# Altium footprint library Erico_Ignitor.PcbLib: 55 footprints (part 3 of 4)
Each footprint in its own frame and in the unit in brackets; x right, y up, seen from the top. Pads: shape width x height; smd on the part's side, far side on the other; paste and mask are expansions set on the pad; w line width, h text height; cw(c..) or ccw(c..) is an arc to the next point about the centre after c.
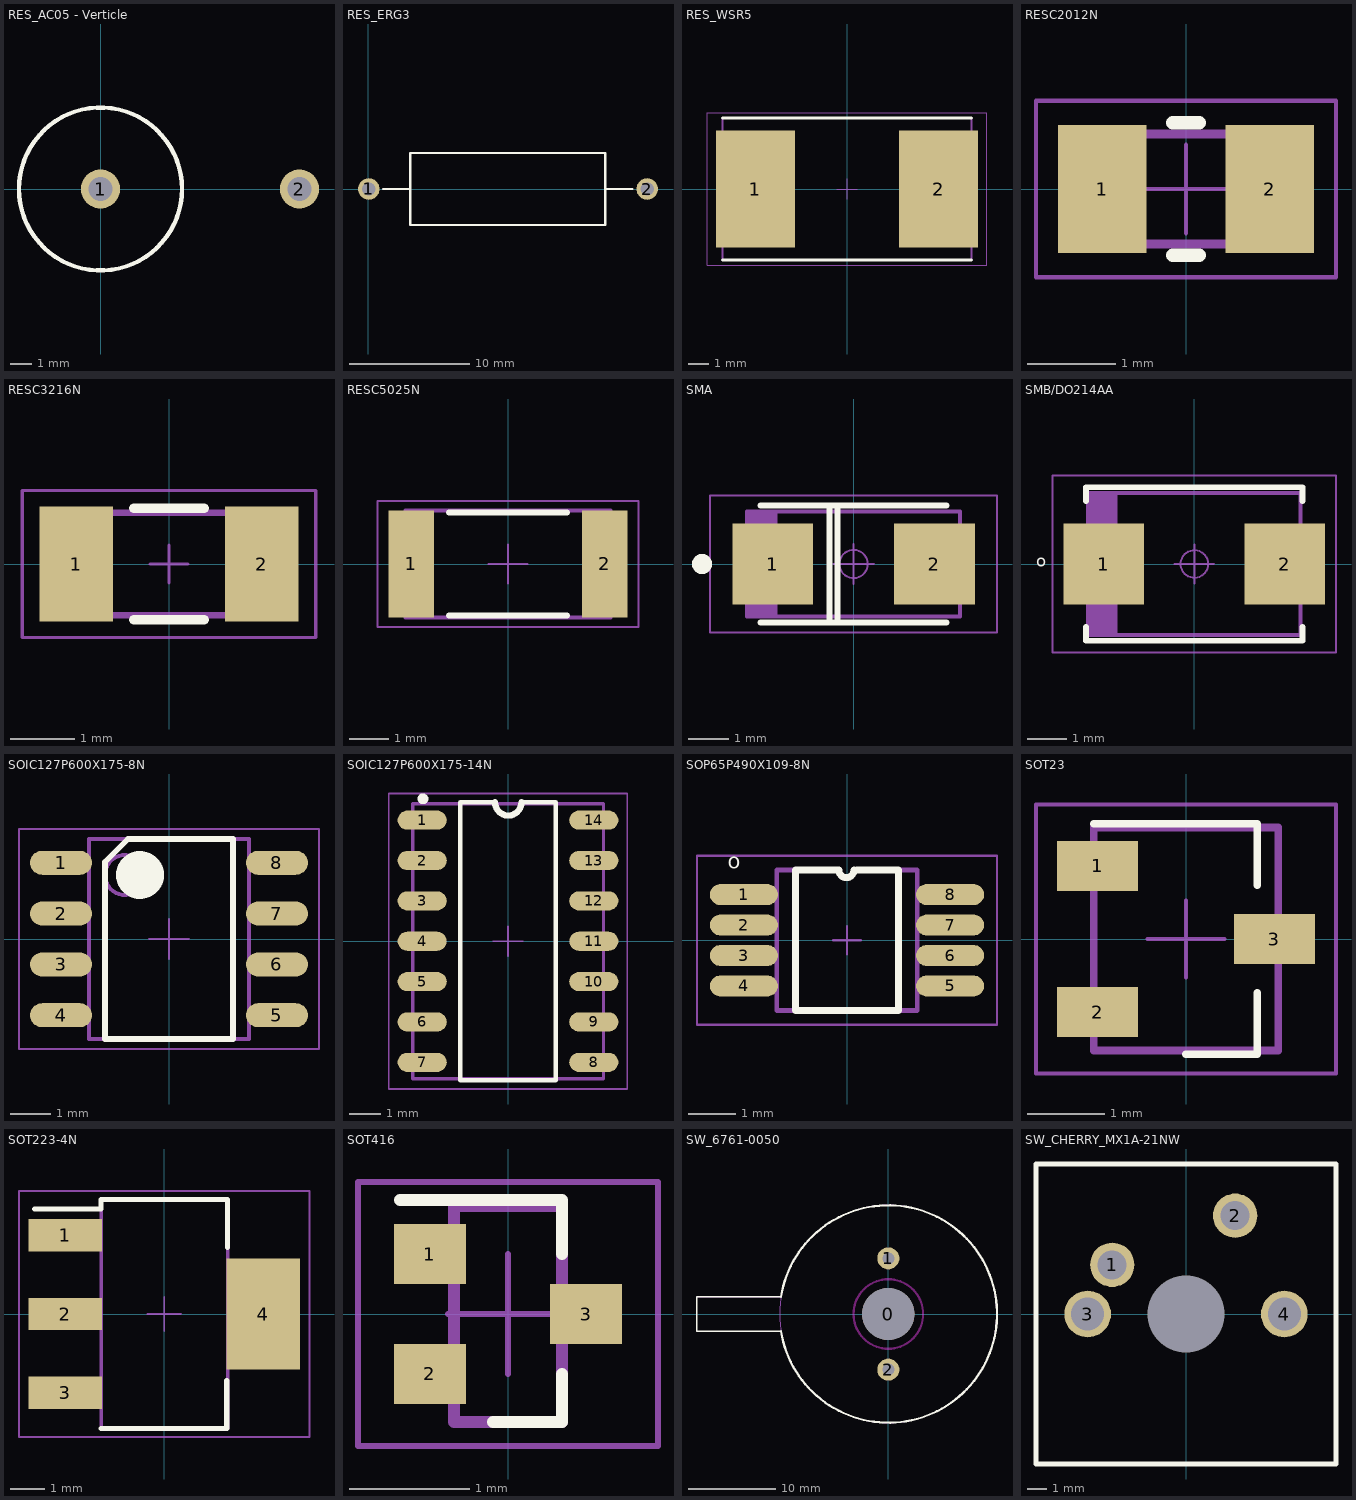
[diagram p2: the footprints below, top view; thin cyan lines are the x and y axes]

## RES_AC05 - Verticle [mm] "Resistor, Axial, 5W"
height 7.493
pads (2):
  round 1.8 hole 1.1: 1(0,0) 2(9.144,0)
Top Overlay:
  circle w0.2: c0,0 r3.746
3D body: height 2.2, standoff -2.8, extent -0.397,-0.399 0.4,0.399
3D body: height 21.2, standoff 20.4, extent -0.399,-0.397 0.4,0.397
3D body: height 21.2, standoff 20.4, extent 8.745,-0.397 9.544,0.397
3D body: height 21.2, standoff 20.4, extent 0,-0.399 9.144,0.398
3D body: height 20.75, standoff 19.25, extent -0.397,-0.399 0.4,0.399
3D body: height 20.8, standoff -2.8, extent 8.747,-0.399 9.544,0.399
3D body: height 19.25, standoff 1.27, extent -3.747,-3.746 3.746,3.747

## RES_ERG3 [mm] "Resistor, Axial, 3W"
height 5.512
pads (2):
  round 1.8 hole 1.1: 1(0.039,0) 2(23.25,0)
Top Overlay:
  lines w0.2: 1.25,0 3.5,0 ; 19.75,0 22,0 ; 3.5,-3 19.75,-3 19.75,3 3.5,3 3.5,-3
Mechanical 13:
  lines w0.1: 3.5,-3 3.5,3 19.75,3 19.75,-3 3.5,-3
3D body "RES_ERG3S.stp": height 6.5, standoff -2.54, extent -0.444,-3.251 23.762,3.251

## RES_WSR5 [mil] "Chip Resistor Body 455mils X 275mils"
height 100
pads (2):
  rect 155x230 smd: 1(-180,0) 2(180,0)
Top Overlay:
  lines w6: -245,-140 245,-140 ; -245,140 245,140
Mechanical 13:
  lines w4: -245,-140 245,-140 245,140 -245,140 -245,-140
Mechanical 15:
  lines w2: -19.68,0 19.69,0 ; 0,-19.68 0,19.69 ; -275,-150 275,-150 275,150 -275,150 -275,-150
3D body "WSR.step": height 49.02, standoff 0, extent -240.98,-139.99 240.99,140.01
3D body: height 50, standoff 0, extent 0,0 0,0

## RESC2012N [mm] "Chip Resistor, Body 2.0x1.3mm, IPC Med Density"
height 0.65
pads (2):
  rect 1x1.45 smd: 1(-0.95,0) 2(0.95,0)
Top Overlay:
  lines w0.15: -0.15,-0.75 0.15,-0.75 ; -0.15,0.75 0.15,0.75
Mechanical 13:
  lines w0.1: -1.075,-0.625 -1.075,0.625 1.075,0.625 1.075,-0.625 -1.075,-0.625
Mechanical 15:
  lines w0.05: -0.5,0 0.5,0 ; 0,-0.5 0,0.5 ; -1.7,-1 -1.7,1 1.7,1 1.7,-1 -1.7,-1
3D body "User Library-SMD RESISTOR-0805.STEP": height 0.59, standoff -0.01, extent -1,-0.625 1,0.625

## RESC3216N [mm] "Chip Resistor, Body 3.2x1.6mm, IPC Nominal"
height 0.71
pads (2):
  rect 1.15x1.8 smd: 1(-1.45,0) 2(1.45,0)
Top Overlay:
  lines w0.15: -0.55,-0.875 0.55,-0.875 ; -0.55,0.875 0.55,0.875
Mechanical 13:
  lines w0.1: -1.6,-0.8 -1.6,0.8 1.6,0.8 1.6,-0.8 -1.6,-0.8
Mechanical 15:
  lines w0.05: -0.3,0 0.3,0 ; 0,-0.3 0,0.3 ; -2.3,-1.15 -2.3,1.15 2.3,1.15 2.3,-1.15 -2.3,-1.15
3D body "CR3216-1206.STEP": height 0.6, standoff 0, extent -1.6,-0.8 1.6,0.8

## RESC5025N [mm] "Chip Resistor Body 5.0x2.5mm, IPC Med Density"
height 0.76
pads (2):
  rect 1.15x2.7 smd: 1(-2.45,0) 2(2.45,0)
Top Overlay:
  lines w0.15: -1.5,-1.3 1.5,-1.3 ; -1.5,1.3 1.5,1.3
Mechanical 13:
  lines w0.1: -2.6,-1.35 2.6,-1.35 2.6,1.35 -2.6,1.35 -2.6,-1.35
Mechanical 15:
  lines w0.05: -0.5,0 0.5,0 ; 0,-0.5 0,0.5 ; -3.3,-1.6 3.3,-1.6 3.3,1.6 -3.3,1.6 -3.3,-1.6
3D body "User Library-SMD RESISTOR-2010..STEP": height 0.6, standoff 0, extent -2.5,-1.25 2.5,1.25

## SMA [mm] "Diode, DO-214AC, SMA, 2.92mm x 4.57mm x 2.41mm"
height 2.41
pads (2):
  rect 2x2 smd: 1(-2,0) 2(2,0)
Top Overlay:
  circle w0.25: c-3.75,0 r0.125
  lines w0.15: -2.3,-1.45 2.3,-1.45 ; -2.3,1.45 2.3,1.45 ; -0.6,-1.45 -0.6,1.45 ; -0.4,-1.45 -0.4,1.45
Mechanical 13:
  lines w0.1: -2.532,-1.3 -2.532,1.3 ; -2.432,-1.3 -2.432,1.3 ; -2.332,-1.3 -2.332,1.3 ; -2.232,-1.3 -2.232,1.3 ; -2.132,-1.3 -2.132,1.3 ; -2.033,-1.3 -2.033,1.3 ; -1.932,-1.3 -1.932,1.3 ; -2.632,-1.3 2.632,-1.3 2.632,1.3 -2.632,1.3 ; -2.632,-1.3 -2.632,1.3 ; -2.632,-1.3 -2.632,1.3
Mechanical 15:
  circle w0.05: c0,0 r0.35
  lines w0.05: -0.5,0 0.5,0 ; 0,-0.5 0,0.5 ; -3.55,-1.7 3.55,-1.7 3.55,1.7 -3.55,1.7 -3.55,-1.7
3D body "SW3dPS-DO-214AC SMA.STEP": height 2.38, standoff -0.02, extent -2.6,-1.3 2.6,1.3

## SMB/DO214AA [mm] "Diode, SMB"
height 2.44
pads (2):
  rect 2.05x2.05 smd: 1(-2.3,0) 2(2.3,0)
Top Overlay:
  lines w0.15: -2.75,-1.6 -2.75,-1.95 2.75,-1.95 2.75,-1.6 ; -2.75,1.6 -2.75,1.95 2.75,1.95 2.75,1.6
  text "o" at -4.025,-0.075 h0.3
Mechanical 13:
  lines w0.1: -2.6,-1.8 -2.6,1.8 ; -2.5,-1.8 -2.5,1.8 ; -2.4,-1.8 -2.4,1.8 ; -2.3,-1.8 -2.3,1.8 ; -2.2,-1.8 -2.2,1.8 ; -2.1,-1.8 -2.1,1.8 ; -2,-1.8 -2,1.8 ; -2.7,-1.8 2.7,-1.8 2.7,1.8 -2.7,1.8 ; -2.7,-1.8 -2.7,1.8 ; -2.7,-1.8 -2.7,1.8
Mechanical 15:
  circle w0.05: c0,0 r0.35
  lines w0.05: -0.5,0 0.5,0 ; 0,-0.5 0,0.5 ; -3.6,-2.25 3.6,-2.25 3.6,2.25 -3.6,2.25 -3.6,-2.25
3D body "SW3dPS-DO-214AA SMB.STEP": height 2.29, standoff -0.01, extent -2.7,-1.8 2.7,1.8

## SOIC127P600X175-8N [mm] "SOIC, 8-Leads, Body 4.9x3.9mm, Pitch 1.27mm, IPC Medium Density"
height 1.75
pads (8):
  oval 1.55x0.6 smd: 1(-2.7,1.905) 2(-2.7,0.635) 3(-2.7,-0.635) 4(-2.7,-1.905) 5(2.7,-1.905) 6(2.7,-0.635) 7(2.7,0.635) 8(2.7,1.905)
Top Overlay:
  circle w0.6: c-0.725,1.6 r0.3
  lines w0.15: -1.6,-2.5 1.6,-2.5 1.6,2.5 -1.025,2.5 -1.6,1.925 -1.6,-2.5
Mechanical 13:
  circle w0.1: c-1.1,1.6 r0.5
  lines w0.1: -2,-2.5 -2,2.5 2,2.5 2,-2.5 -2,-2.5
Mechanical 15:
  lines w0.05: -0.5,0 0.5,0 ; 0,-0.5 0,0.5 ; -3.75,-2.75 -3.75,2.75 3.75,2.75 3.75,-2.75 -3.75,-2.75
3D body "User Library-IPC SO8.STEP": height 1.9, standoff 0, extent -3.028,-2.5 3.028,2.5

## SOIC127P600X175-14N [mm] "SOIC, 1.27mm pitch, 14P, 3.9mm x 8.69mm, IPC Nominal"
height 1.75
pads (14):
  oval 1.55x0.6 smd: 1(-2.7,3.81) 2(-2.7,2.54) 3(-2.7,1.27) 4(-2.7,0) 5(-2.7,-1.27) 6(-2.7,-2.54) 7(-2.7,-3.81) 8(2.7,-3.81) 9(2.7,-2.54) 10(2.7,-1.27) 11(2.7,0) 12(2.7,1.27) 13(2.7,2.54) 14(2.7,3.81)
Top Overlay:
  circle w0.25: c-2.675,4.483 r0.042
  lines w0.15: -0.408,4.374 -1.5,4.374 -1.5,-4.376 1.5,-4.376 1.5,4.374 0.425,4.374
  lines w0.2: -0.408,4.374 ccw(c0.008,4.374) 0.425,4.374
Mechanical 13:
  lines w0.1: -3,-4.326 3.008,-4.326 3.008,4.325 -3,4.325 -3,-4.326
Mechanical 15:
  lines w0.05: -0.475,0 0.475,0 ; 0,-0.475 0,0.475 ; -3.75,-4.65 -3.75,4.65 3.75,4.65 3.75,-4.65 -3.75,-4.65
3D body "SOIC14.STEP": height 1.55, standoff 0, extent -3,-4.325 3,4.325

## SOP65P490X109-8N [mm] "SOP, 0.65P, 8P, 3.00mm x 3.00mm, IPC Nominal"
height 1.1
pads (8):
  oval 1.45x0.45 smd mask+0.047: 1(-2.2,0.975) 2(-2.2,0.325) 3(-2.2,-0.325) 4(-2.2,-0.975) 5(2.2,-0.975) 6(2.2,-0.325) 7(2.2,0.325) 8(2.2,0.975)
Top Overlay:
  lines w0.15: 0.15,1.5 cw(c-0.013,1.5) -0.175,1.5 -1.1,1.5 -1.1,-1.5 1.1,-1.5 1.1,1.5 0.2,1.5
  text "o" at -2.54,1.524 h0.33
Mechanical 13:
  lines w0.1: 0.15,1.5 cw(c-0.013,1.5) -0.175,1.5 -1.5,1.5 -1.5,-1.5 1.5,-1.5 1.5,1.5 0.2,1.5
Mechanical 15:
  lines w0.05: -0.3,0 0.3,0 ; 0,-0.3 0,0.3 ; -3.2,-1.8 3.2,-1.8 3.2,1.8 -3.2,1.8 -3.2,-1.8
3D body "User Library-IPC SOSOP65P490X110-8BN MO-187AA SOP.STEP": height 1.25, standoff 0, extent -2.478,-1.55 2.478,1.55

## SOT23 [mm] "SOT23, 3-Leads, Body 2.9x1.3mm, Pitch 0.95mm, Lead Span 2.5mm, IPC Med Density"
height 1.1
pads (3):
  rect 1.05x0.65 smd: 1(-1.15,0.95) 2(-1.15,-0.95) 3(1.15,0)
Top Overlay:
  lines w0.1: -1.2,1.5 0.694,1.5 0.925,1.5 0.925,0.7 ; 0,-1.5 0.925,-1.5 0.925,-0.7
Mechanical 13:
  lines w0.1: -1.2,-1.45 -1.2,1.45 1.2,1.45 1.2,-1.45 -1.2,-1.45
Mechanical 15:
  lines w0.05: -0.5,0 0.5,0 ; 0,-0.5 0,0.5 ; -1.95,-1.75 -1.95,1.75 1.95,1.75 1.95,-1.75 -1.95,-1.75
3D body "SOT-3p290x130.STEP": height 1, standoff 0, extent -1.185,-1.475 1.185,1.425

## SOT223-4N [mm] "SOT223/SC73, 4-Leads, Body 6.5x3.5mm, Pitch 2.3mm, Lead Span 7mm, IPC Medium Density"
height 1.8
pads (4):
  rect 2.15x0.95 smd: 1(-2.9,2.3) 2(-2.9,0) 3(-2.9,-2.3)
  rect 2.15x3.25 smd: 4(2.9,0)
Top Overlay:
  lines w0.15: -3.8,3.075 -1.85,3.075 -1.85,3.35 0.437,3.35 1.85,3.35 1.85,1.95 ; -1.85,-3.35 1.825,-3.35 1.825,-1.95
Mechanical 13:
  lines w0.1: -1.85,-3.35 -1.85,3.35 1.85,3.35 1.85,-3.35 -1.85,-3.35
Mechanical 15:
  lines w0.05: -0.5,0 0.5,0 ; 0,-0.5 0,0.5 ; -4.25,-3.6 -4.25,3.6 4.25,3.6 4.25,-3.6 -4.25,-3.6
3D body "SW3dPS-SOT-223-1.STEP": height 1.59, standoff -0.06, extent -3.5,-3.25 3.5,3.25

## SOT416 [mm] "SOT416 (SC-75) .9mm x 1.8mm"
height 0.95
pads (3):
  rect 0.6x0.5 smd: 1(-0.65,0.5) 2(-0.65,-0.5) 3(0.65,0)
Top Overlay:
  lines w0.1: -0.9,0.95 0.45,0.95 0.45,0.9 0.45,0.5 ; -0.125,-0.9 0.45,-0.9 0.45,-0.5
Mechanical 13:
  lines w0.1: -0.45,-0.9 0.45,-0.9 0.45,0.9 -0.45,0.9 -0.45,-0.9
Mechanical 15:
  lines w0.05: -0.5,0 0.5,0 ; 0,-0.5 0,0.5 ; -1.25,-1.1 1.25,-1.1 1.25,1.1 -1.25,1.1 -1.25,-1.1
3D body "SC-75.stp": height 0.7, standoff -0.03, extent -0.8,-0.8 0.8,0.8

## SW_6761-0050 [mm] "SWITCH PRESSURE/VACUUM 6761"
height 18
pads (3):
  round 6 hole 6 unplated: 0(0,0)
  round 2.54 hole 1.372: 1(0,6.4) 2(0,-6.4)
Top Overlay:
  lines w0.15: -12.4,-2 -22,-2 -22,2 -12.4,2
  lines w0.254: -12.341,-1.99 ccw(c0,0) -12.341,1.99
Keep-Out Layer:
  circle w0.254: c0,0 r4
Mechanical 13:
  circle w0.102: c0,0 r12.5
  lines w0.1: -12.4,-2 -22,-2 -22,2 -12.4,2
3D body: height 7.3, standoff 3.3, extent -21,-1.892 -11,2.092
3D body: height 15.8, standoff 11.8, extent -22,-1.984 -12,2
3D body: height 18, standoff 0, extent -12.401,-12.475 12.5,12.476

## SW_CHERRY_MX1A-21NW [mil] "Key Switch, TACT, 15.6mm x15.6mm"
height 600
pads (5):
  round 90 hole 59: 1(-150,100) 2(100,200)
  round 95 hole 67: 3(-200,0) 4(200,0)
  round 0 hole 157 unplated: 5(0,0)
Top Overlay:
  lines w10: -305,-305 -305,305 305,305 305,-305 -305,-305
Mechanical 13:
  lines w4: -305,-305 -305,305 305,305 305,-305 -305,-305
3D body "keyboard_MX.STEP": height 599.89, standoff -136.33, extent -305.11,-305.12 305.12,305.11